# Altium footprint library SMD_2010.PcbLib: 1 footprints
Each footprint in its own frame and in the unit in brackets; x right, y up, seen from the top. Pads: shape width x height; smd on the part's side, far side on the other; paste and mask are expansions set on the pad; w line width, h text height; cw(c..) or ccw(c..) is an arc to the next point about the centre after c.
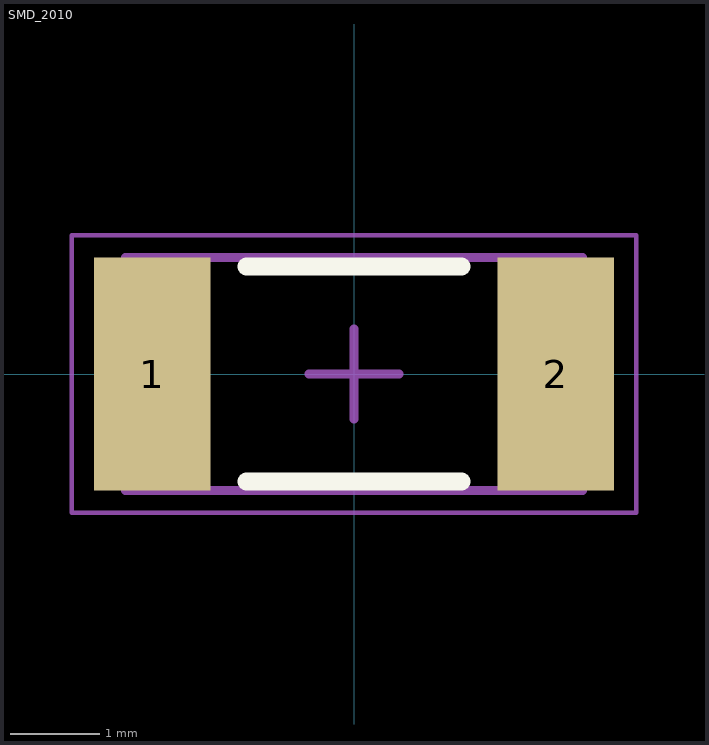
[diagram p0: the footprint, top view; thin cyan lines are the x and y axes]

## SMD_2010 [mm] "Chip Resistor, 2-Leads, Body 5,00x2,50mm, IPC Medium Density"
height 0.6
pads (2):
  rect 1.3x2.6 smd: 1(-2.25,0) 2(2.25,0)
Top Overlay:
  lines w0.2: -1.2,-1.2 1.2,-1.2 ; -1.2,1.2 1.2,1.2
Mechanical 13:
  lines w0.1: -2.55,-1.3 2.55,-1.3 2.55,1.3 -2.55,1.3 -2.55,-1.3
Mechanical 15:
  lines w0.05: -3.15,-1.55 3.15,-1.55 3.15,1.55 -3.15,1.55 -3.15,-1.55
  lines w0.1: -0.5,0 0.5,0 ; 0,-0.5 0,0.5
3D body: height 0.6, standoff 0, extent 1.95,-1.3 2.55,1.3
3D body: height 0.6, standoff 0, extent -2.55,-1.3 -1.95,1.3
3D body: height 0.6, standoff 0, extent -1.95,-1.3 1.95,1.3